# Altium footprint library Inductors.PcbLib: 3 footprints
Each footprint in its own frame and in the unit in brackets; x right, y up, seen from the top. Pads: shape width x height; smd on the part's side, far side on the other; paste and mask are expansions set on the pad; w line width, h text height; cw(c..) or ccw(c..) is an arc to the next point about the centre after c.
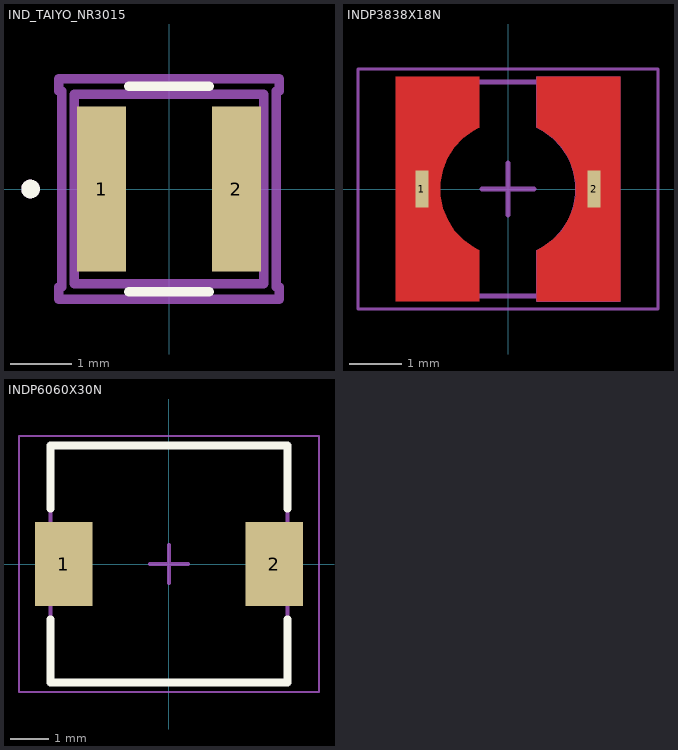
[diagram p0: the footprints below, top view; thin cyan lines are the x and y axes]

## IND_TAIYO_NR3015 [mm]
pads (2):
  rect 0.8x2.7 smd mask+0.051: 1(-1.1,0) 2(1.1,0)
Top Overlay:
  circle w0.152: c-2.261,0 r0.076
  lines w0.152: -0.657,-1.676 0.657,-1.676 ; -0.657,1.676 0.657,1.676
Mechanical 1:
  circle w0.025: c-1.473,0 r0.076
  lines w0.025: -1.549,-1.549 -1.549,1.549 1.549,1.549 1.549,-1.549 -1.549,-1.549
Mechanical 16:
  circle w0.152: c-2.261,0 r0.076
  lines w0.152: -1.803,-1.803 1.803,-1.803 1.803,-1.6 1.753,-1.6 1.753,1.6 1.803,1.6 1.803,1.803 -1.803,1.803 -1.803,1.6 -1.753,1.6 -1.753,-1.6 -1.803,-1.6 -1.803,-1.803 ; -1.549,-1.549 -1.549,1.549 1.549,1.549 1.549,-1.549 -1.549,-1.549
3D body "IND_TAIYO_NR3015.step": height 1.5, standoff 0, extent -1.549,-1.552 1.549,1.552

## INDP3838X18N [mm] "Precision Wire Wound Inductor, 2-Leads, Body 3.80x3.80mm, IPC Medium Density"
height 1.8
pads (2):
  rect 0.25x0.7 smd: 1(-1.651,0) 2(1.651,0)
Top Layer:
  region: -0.55,-2.15 -0.55,-1.177 -0.659,-1.12 -0.858,-0.977 -1.027,-0.8 -1.159,-0.593 -1.251,-0.366 -1.298,-0.125 -1.299,0.12 -1.253,0.361 -1.164,0.589 -1.033,0.797 -0.865,0.976 -0.667,1.12 -0.559,1.178 -0.55,1.177 -0.55,2.15 -2.15,2.15 -2.15,-2.15
  region: 0.55,-2.15 0.55,-1.177 0.659,-1.12 0.858,-0.977 1.027,-0.799 1.16,-0.593 1.251,-0.365 1.298,-0.125 1.299,0.121 1.253,0.362 1.164,0.59 1.033,0.797 0.865,0.976 0.667,1.121 0.559,1.178 0.55,1.177 0.55,2.15 2.15,2.15 2.15,-2.15
Mechanical 1:
  pour cut-out: 0,0
Assembly Top:
  lines w0.1: -2.05,-2.05 2.05,-2.05 2.05,2.05 -2.05,2.05 -2.05,-2.05
Courtyard Top:
  lines w0.05: -2.875,-2.3 2.875,-2.3 2.875,2.3 -2.875,2.3 -2.875,-2.3
  lines w0.1: -0.5,0 0.5,0 ; 0,-0.5 0,0.5
Mechanical 5:
  lines w0.01: 0.55,1.178 cw(c0,0) 0.55,-1.178 0.55,-2.15 2.15,-2.15 2.15,2.15 0.55,2.15 0.55,1.179
3D body "INDP3838X18N.step": height 1.9, standoff 0, extent -2,-1.9 2,1.9

## INDP6060X30N [mm] "Precision Wire Wound Inductor, 2-Leads, Body 6.00x6.00mm, IPC Medium Density"
height 3
pads (2):
  rect 1.5x2.2 smd mask+0.051: 1(-2.75,0) 2(2.75,0)
Top Overlay:
  lines w0.2: -3.1,-1.45 -3.1,-3.1 3.1,-3.1 3.1,-1.45 ; -3.1,1.45 -3.1,3.1 3.1,3.1 3.1,1.45
Assembly Top:
  lines w0.1: -3.1,-3.1 3.1,-3.1 3.1,3.1 -3.1,3.1 -3.1,-3.1
Courtyard Top:
  lines w0.05: -3.925,-3.35 3.925,-3.35 3.925,3.35 -3.925,3.35 -3.925,-3.35
  lines w0.1: -0.5,0 0.5,0 ; 0,-0.5 0,0.5
3D body "INDP6060X30N.step": height 3.1, standoff 0, extent -3.1,-3 3.1,3